# EAGLE library part H1102NLT (library H1102NLT)
Audio Transformers / Signal Transformers 100BaseTX SMD NonPoE 350uH .65Ohms 1-Port Source: Datasheet <https://productfinder.pulseeng.com/products/datasheets/H1102NL.pdf>
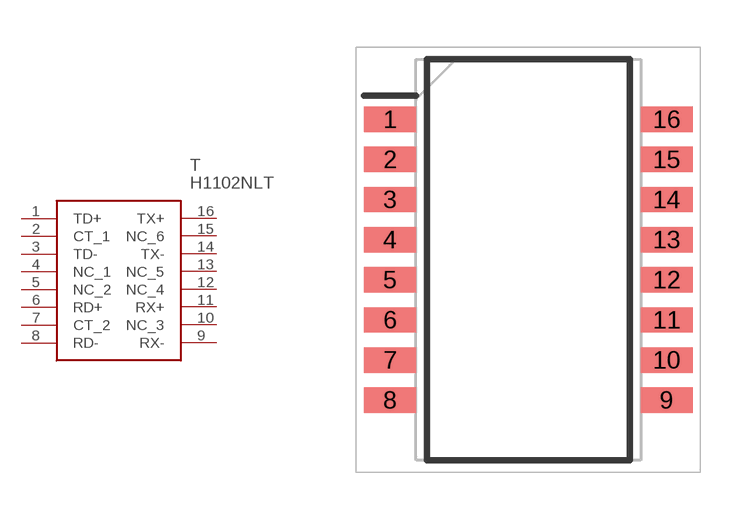
[diagram p0: symbol with the pads of SOIC127P940X622-16N; footprint SOIC127P940X622-16N]

Designator prefix T

## H1102NLT (Description: Audio Transformers / Signal Transformers 100BaseTX SMD NonPoE 350uH .65Ohms 1-Port; Height: 6.22mm; Manufacturer_Name: Pulse Electronics; Manufacturer_Part_Number: H1102NLT; Mouser_Part_Number: 673-H1102NLT; Mouser_Price-Stock: https://www.mouser.co.uk/ProductDetail/Pulse-Electronics/H1102NLT?qs=EKu32SdDin8JhhqpR7K10Q%3D%3D)  [SOIC127P940X622-16N]
1  TD+
2  CT_1
3  TD-
4  NC_1
5  NC_2
6  RD+
7  CT_2
8  RD-
9  RX-
10  NC_3
11  RX+
12  NC_4
13  NC_5
14  TX-
15  NC_6
16  TX+

## Footprint SOIC127P940X622-16N (pad centres in mm)
H1102NL
smd 1.645 x 0.8: 1 -4.378,4.445; 2 -4.378,3.175; 3 -4.378,1.905; 4 -4.378,0.635; 5 -4.378,-0.635; 6 -4.378,-1.905; 7 -4.378,-3.175; 8 -4.378,-4.445; 9 4.378,-4.445; 10 4.378,-3.175; 11 4.378,-1.905; 12 4.378,-0.635; 13 4.378,0.635; 14 4.378,1.905; 15 4.378,3.175; 16 4.378,4.445